# Altium footprint library 4304508.PcbLib: 1 footprints
Each footprint in its own frame and in the unit in brackets; x right, y up, seen from the top. Pads: shape width x height; smd on the part's side, far side on the other; paste and mask are expansions set on the pad; w line width, h text height; cw(c..) or ccw(c..) is an arc to the next point about the centre after c.
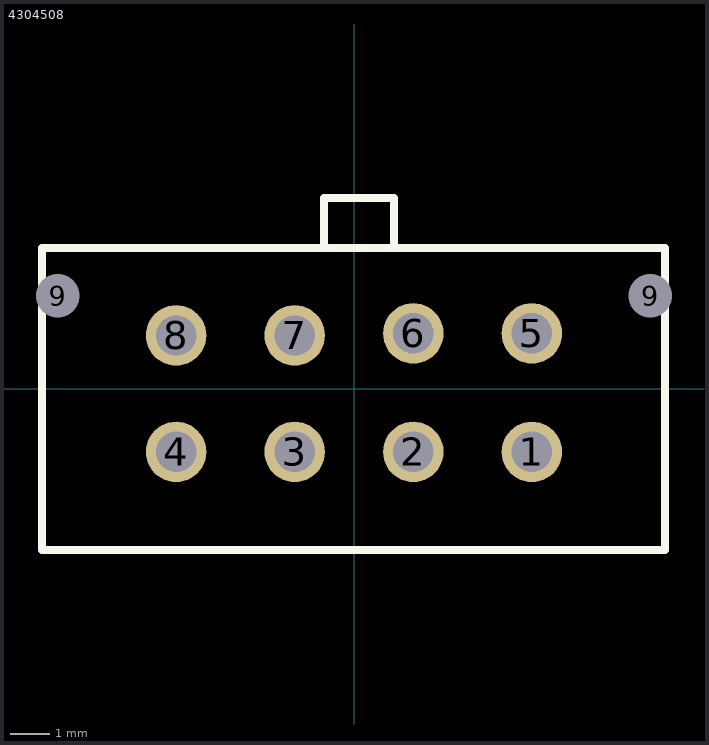
[diagram p0: the footprint, top view; thin cyan lines are the x and y axes]

## 4304508 [mm] "CN Vertical 8 Pin TH"
pads (10):
  round 1.53 hole 1.02: 1(4.5,-1.602) 2(1.5,-1.602) 3(-1.5,-1.602) 4(-4.5,-1.602) 5(4.5,1.398) 6(1.5,1.398) 7(-1.5,1.344) 8(-4.5,1.344)
  round 0.9 hole 1.1: 9(-7.5,2.344) 9(7.5,2.344)
Top Overlay:
  lines w0.203: -0.762,3.556 -0.762,4.826 1.016,4.826 1.016,3.556 ; -7.899,-4.089 7.874,-4.089 7.874,3.556 -7.899,3.556 -7.899,-4.089
3D body "430450812.stp": height 9.95, standoff -3.14, extent -8.075,-4.04 8.075,4.73